# Altium schematic symbol library TCA980X.SchLib: 1 symbol
Pins are listed as number, name and electrical type; pins without a type are passive.

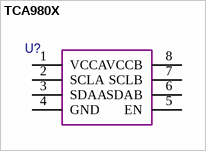
[diagram p0: symbol TCA980X]

## TCA980X
designator U?  (value not drawn)
pins: 1 VCCA, 2 SCLA (oc), 3 SDAA (oc), 4 GND, 5 EN, 6 SDAB (oc), 7 SCLB (oc), 8 VCCB